# Altium schematic symbol library WeldBlock.SchLib: 6 symbols
Pins are listed as number, name and electrical type; pins without a type are passive.

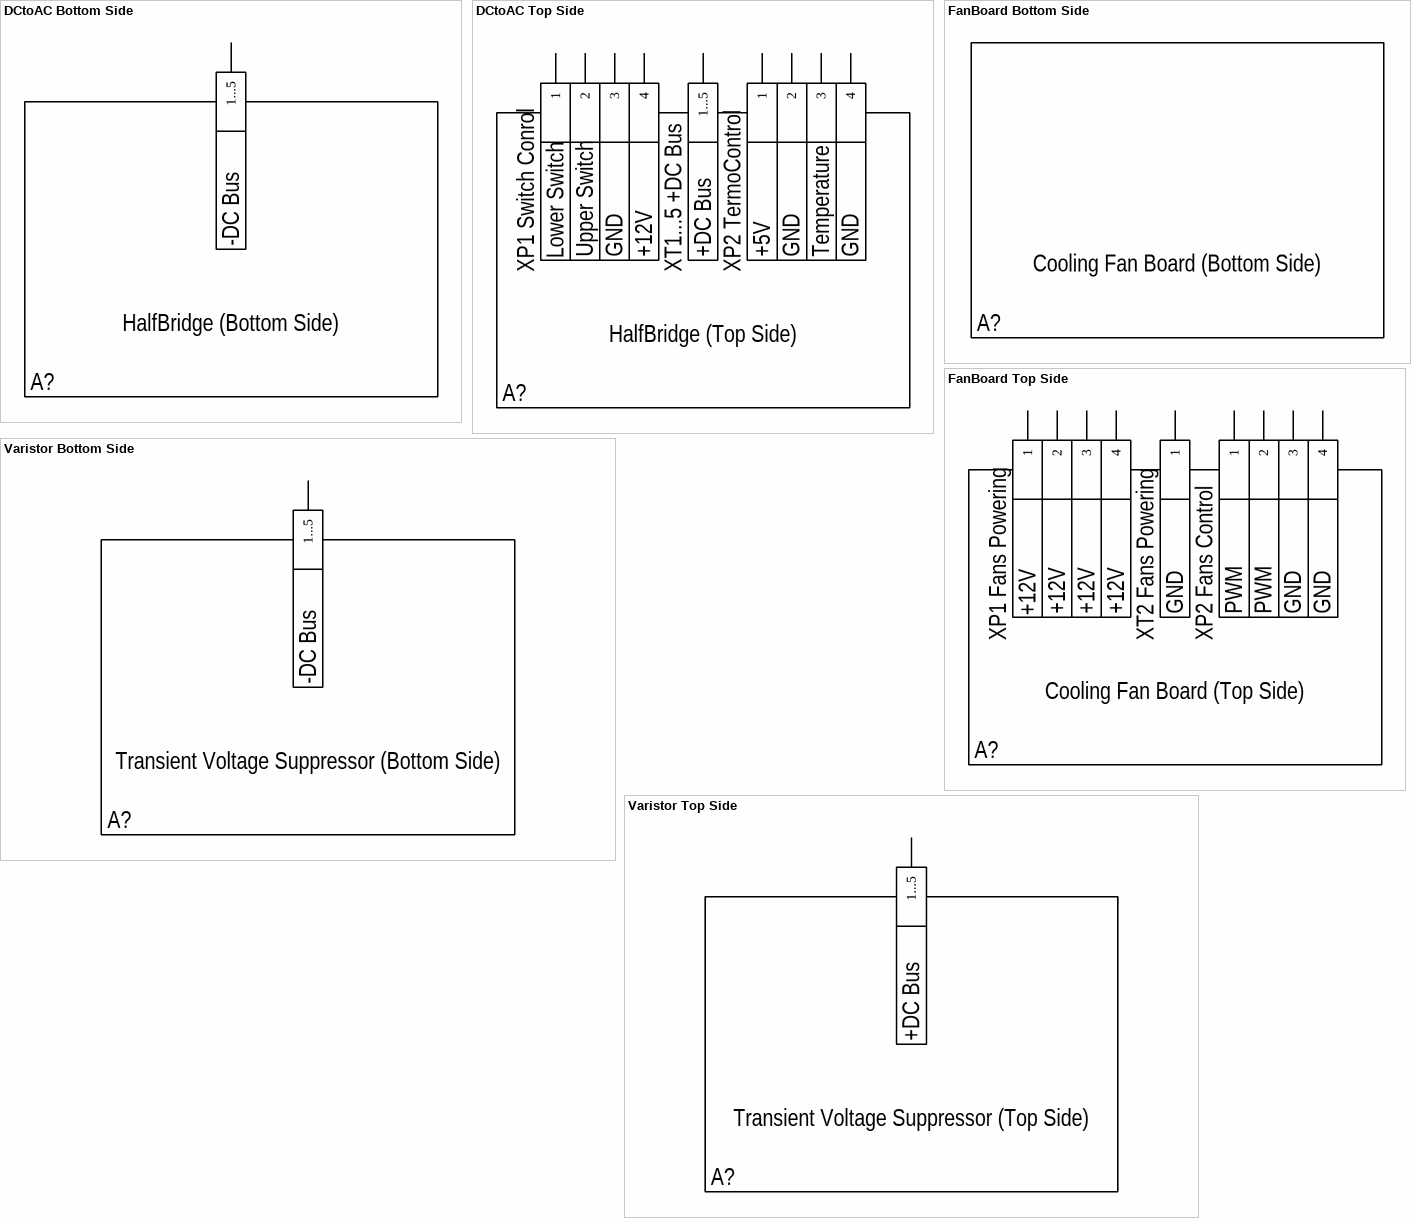
[diagram p0: symbols DCtoAC Bottom Side to Varistor Top Side]

## DCtoAC Bottom Side
designator A?, comment HalfBridge (Bottom Side)  (value not drawn)  (no BOM)
footprint HalfBridge (Bottom Side) (HalfBridge module  ( 200A at Symmetrical Square AC))
footprint HalfBridge (Bottom Side, 3D Body) (HalfBridge module  ( 200A at Symmetrical Square AC))
pins: -DC 1...5
text: -DC Bus

## DCtoAC Top Side
designator A?, comment HalfBridge (Top Side)  (value not drawn)  (no BOM)
footprint HalfBridge (Top Side) (HalfBridge module  ( 200A at Symmetrical Square AC))
footprint HalfBridge (Top Side, 3D Body) (HalfBridge module  ( 200A at Symmetrical Square AC))
pins: +5V 1, +12V 4, +DC 1...5, GND Switch 3, GND Temperature 4, GND Temperature 2, Lower Switch 1, Temperature 3, Upper Switch 2
text: GND; +DC Bus; XP1 Switch Conrol; XT1...5 +DC Bus; XP2 TermoControl

## FanBoard Bottom Side
designator A?, comment Cooling Fan Board (Bottom Side)  (value not drawn)  (no BOM)
footprint Cooling Fans (Bottom Side) (Cooling Module with 2 Fans (120X120X38mm))
footprint Cooling Fans (Bottom Side, 3D Body) (Cooling Module with 2 Fans (120X120X38mm))

## FanBoard Top Side
designator A?, comment Cooling Fan Board (Top Side)  (value not drawn)  (no BOM)
footprint Cooling Fans (Top Side) (Cooling Module with 2 Fans (120X120X38mm))
footprint Cooling Fans (Top Side, 3D Body) (Cooling Module with 2 Fans (120X120X38mm))
pins: +12V 4, +12V 3, +12V 2, +12V 1, GND 1, GND 4, GND 3, PWM 2, PWM 1
text: XP1 Fans Powering; XT2 Fans Powering; XP2 Fans Control

## Varistor Bottom Side
designator A?, comment Transient Voltage Suppressor (Bottom Side)  (value not drawn)  (no BOM)
footprint Varistor Voltage Suppressor (Bottom Side) (Varistor Voltage Suppressor)
footprint Varistor Voltage Suppressor (Bottom Side, 3D Body) (Varistor Voltage Suppressor)
pins: -DC 1...5
text: -DC Bus

## Varistor Top Side
designator A?, comment Transient Voltage Suppressor (Top Side)  (value not drawn)  (no BOM)
footprint Varistor Voltage Suppressor (Top Side) (VVaristor Voltage Suppressor)
footprint Varistor Voltage Suppressor (Top Side, 3D Body) (Varistor Voltage Suppressor)
pins: +DC 1...5
text: +DC Bus